# Altium footprint library WE-LQS_4018.PcbLib: 1 footprints
Each footprint in its own frame and in the unit in brackets; x right, y up, seen from the top. Pads: shape width x height; smd on the part's side, far side on the other; paste and mask are expansions set on the pad; w line width, h text height; cw(c..) or ccw(c..) is an arc to the next point about the centre after c.
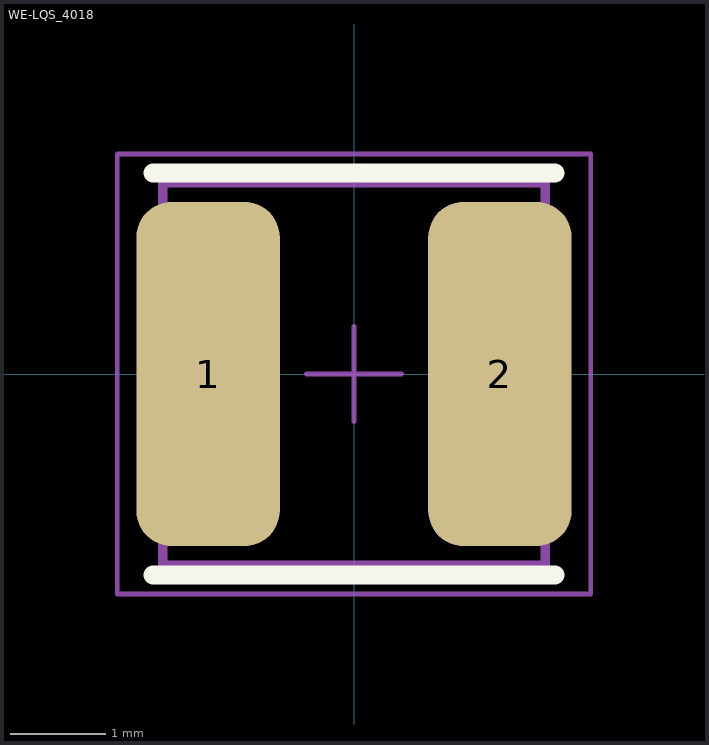
[diagram p0: the footprint, top view; thin cyan lines are the x and y axes]

## WE-LQS_4018 [mm] "SMD Power Inductor, 2-Leads, body 4x4mm"
height 1.8
pads (2):
  rrect50% 1.5x3.6 smd: 1(-1.525,0) 2(1.525,0)
Top Overlay:
  lines w0.2: -2.1,-2.1 2.1,-2.1 ; -2.1,2.1 2.1,2.1
Top Assembly:
  lines w0.1: -2,-2 2,-2 2,2 -2,2 -2,-2
Top Courtyard:
  lines w0.05: -0.5,0 0.5,0 ; 0,-0.5 0,0.5 ; -2.475,-2.3 2.475,-2.3 2.475,2.3 -2.475,2.3 -2.475,-2.3
3D body "IndLQS_4018.stp": height 1.8, standoff 0, extent -2,-2 2,2